# Altium footprint library SRlatch.PCBLIB: 3 footprints
Each footprint in its own frame and in the unit in brackets; x right, y up, seen from the top. Pads: shape width x height; smd on the part's side, far side on the other; paste and mask are expansions set on the pad; w line width, h text height; cw(c..) or ccw(c..) is an arc to the next point about the centre after c.
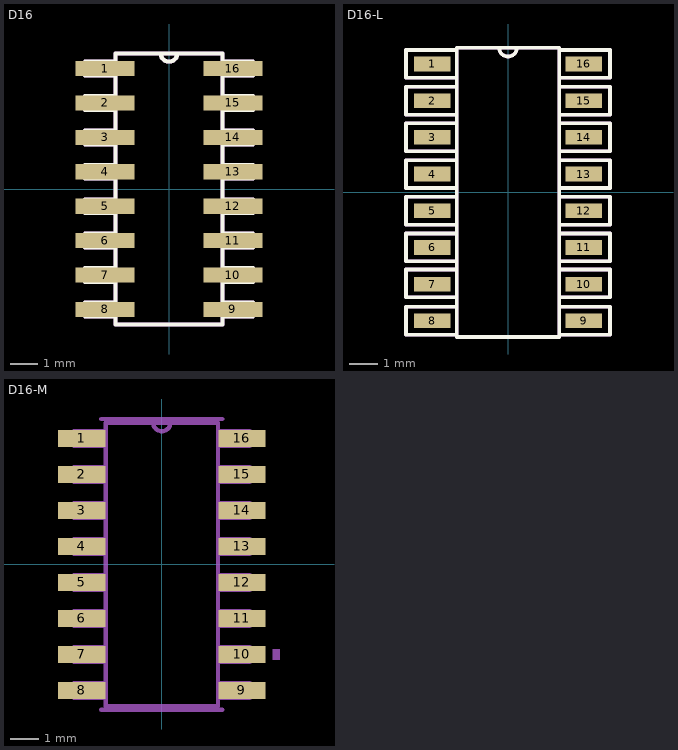
[diagram p0: the footprints below, top view; thin cyan lines are the x and y axes]

## D16 [mil]
pads (16):
  rect 86x22 smd: 1(-93,175) 2(-93,125) 3(-93,75) 4(-93,25) 5(-93,-25) 6(-93,-75) 7(-93,-125) 8(-93,-175) 9(93,-175) 10(93,-125) 11(93,-75) 12(93,-25) 13(93,25) 14(93,75) 15(93,125) 16(93,175)
Top Overlay:
  lines w6: -12,197 ccw(c0,197) 12,197 ; -12,197 12,197 ; -12,197 -78,197 -78,-197 78,-197 78,197 12,197 ; -122,-185 -122,-165 -78,-165 -78,-185 -122,-185 ; -122,-135 -122,-115 -78,-115 -78,-135 -122,-135 ; -122,-85 -122,-65 -78,-65 -78,-85 -122,-85 ; -122,-35 -122,-15 -78,-15 -78,-35 -122,-35 ; -122,15 -122,35 -78,35 -78,15 -122,15 ; -122,65 -122,85 -78,85 -78,65 -122,65 ; -122,115 -122,135 -78,135 -78,115 -122,115 ; -122,165 -122,185 -78,185 -78,165 -122,165 ; 78,-185 78,-165 122,-165 122,-185 78,-185 ; 78,-135 78,-115 122,-115 122,-135 78,-135 ; 78,-85 78,-65 122,-65 122,-85 78,-85 ; 78,-35 78,-15 122,-15 122,-35 78,-35 ; 78,15 78,35 122,35 122,15 78,15 ; 78,65 78,85 122,85 122,65 78,65 ; 78,115 78,135 122,135 122,115 78,115 ; 78,165 78,185 122,185 122,165 78,165
Dimension:
  lines w6: -12,197 ccw(c0,197) 12,197 ; -12,197 12,197 ; -12,197 -78,197 -78,-197 78,-197 78,197 12,197 ; -122,-185 -122,-165 -78,-165 -78,-185 -122,-185 ; -122,-135 -122,-115 -78,-115 -78,-135 -122,-135 ; -122,-85 -122,-65 -78,-65 -78,-85 -122,-85 ; -122,-35 -122,-15 -78,-15 -78,-35 -122,-35 ; -122,15 -122,35 -78,35 -78,15 -122,15 ; -122,65 -122,85 -78,85 -78,65 -122,65 ; -122,115 -122,135 -78,135 -78,115 -122,115 ; -122,165 -122,185 -78,185 -78,165 -122,165 ; 78,-185 78,-165 122,-165 122,-185 78,-185 ; 78,-135 78,-115 122,-115 122,-135 78,-135 ; 78,-85 78,-65 122,-65 122,-85 78,-85 ; 78,-35 78,-15 122,-15 122,-35 78,-35 ; 78,15 78,35 122,35 122,15 78,15 ; 78,65 78,85 122,85 122,65 78,65 ; 78,115 78,135 122,135 122,115 78,115 ; 78,165 78,185 122,185 122,165 78,165
Assembly Top:
  lines w6: -12,197 ccw(c0,197) 12,197 ; -12,197 -78,197 -78,-197 78,-197 78,197 12,197 ; -12,197 12,197 ; -122,-185 -78,-185 -78,-165 -122,-165 -122,-185 ; -122,-135 -78,-135 -78,-115 -122,-115 -122,-135 ; -122,-85 -78,-85 -78,-65 -122,-65 -122,-85 ; -122,-35 -78,-35 -78,-15 -122,-15 -122,-35 ; -122,15 -78,15 -78,35 -122,35 -122,15 ; -122,65 -78,65 -78,85 -122,85 -122,65 ; -122,115 -78,115 -78,135 -122,135 -122,115 ; -122,165 -78,165 -78,185 -122,185 -122,165 ; 78,-185 122,-185 122,-165 78,-165 78,-185 ; 78,-135 122,-135 122,-115 78,-115 78,-135 ; 78,-85 122,-85 122,-65 78,-65 78,-85 ; 78,-35 122,-35 122,-15 78,-15 78,-35 ; 78,15 122,15 122,35 78,35 78,15 ; 78,65 122,65 122,85 78,85 78,65 ; 78,115 122,115 122,135 78,135 78,115 ; 78,165 122,165 122,185 78,185 78,165
3D body "User Library-16lead IC SOIC.step": height 55.12, standoff 0, extent -116.53,-194.77 119.68,195

## D16-L [mil]
pads (16):
  rect 49.5x20 smd: 1(-103.25,175) 2(-103.25,125) 3(-103.25,75) 4(-103.25,25) 5(-103.25,-25) 6(-103.25,-75) 7(-103.25,-125) 8(-103.25,-175) 9(103.25,-175) 10(103.25,-125) 11(103.25,-75) 12(103.25,-25) 13(103.25,25) 14(103.25,75) 15(103.25,125) 16(103.25,175)
Top Overlay:
  lines w5: -72,-194 -139,-194 -139,-156 -72,-156 ; -72,-143 -139,-143 -139,-105 -72,-105 ; -72,-94 -139,-94 -139,-56 -72,-56 ; -72,-44 -139,-44 -139,-6 -72,-6 ; -72,6 -139,6 -139,44 -72,44 ; -72,56 -139,56 -139,94 -72,94 ; -72,106 -139,106 -139,144 -72,144 ; -72,156 -139,156 -139,194 -72,194 ; 72,-194 139,-194 139,-156 72,-156 ; 72,-143 139,-143 139,-105 72,-105 ; 72,-94 139,-94 139,-56 72,-56 ; 72,-44 139,-44 139,-6 72,-6 ; 72,6 139,6 139,44 72,44 ; 72,56 139,56 139,94 72,94 ; 72,106 139,106 139,144 72,144 ; 72,156 139,156 139,194 72,194 ; -12,197 ccw(c0,197) 12,197 ; -12,197 12,197 ; -12,197 -70,197 -70,-197 70,-197 70,197 12,197
Dimension:
  lines w5: -72,-194 -139,-194 -139,-156 -72,-156 ; -72,-143 -139,-143 -139,-105 -72,-105 ; -72,-94 -139,-94 -139,-56 -72,-56 ; -72,-44 -139,-44 -139,-6 -72,-6 ; -72,6 -139,6 -139,44 -72,44 ; -72,56 -139,56 -139,94 -72,94 ; -72,106 -139,106 -139,144 -72,144 ; -72,156 -139,156 -139,194 -72,194 ; 72,-194 139,-194 139,-156 72,-156 ; 72,-143 139,-143 139,-105 72,-105 ; 72,-94 139,-94 139,-56 72,-56 ; 72,-44 139,-44 139,-6 72,-6 ; 72,6 139,6 139,44 72,44 ; 72,56 139,56 139,94 72,94 ; 72,106 139,106 139,144 72,144 ; 72,156 139,156 139,194 72,194 ; -12,197 ccw(c0,197) 12,197 ; -12,197 -70,197 -70,-197 70,-197 70,197 12,197 ; -12,197 12,197
  text "'.Designator'" at -20,140 h27.56
3D body "User Library-16lead IC SOIC.step": height 55.12, standoff 0, extent -116.53,-194.77 119.68,195

## D16-M [mil]
pads (16):
  rect 65.5x24 smd: 1(-111.25,175) 2(-111.25,125) 3(-111.25,75) 4(-111.25,25) 5(-111.25,-25) 6(-111.25,-75) 7(-111.25,-125) 8(-111.25,-175) 9(111.25,-175) 10(111.25,-125) 11(111.25,-75) 12(111.25,-25) 13(111.25,25) 14(111.25,75) 15(111.25,125) 16(111.25,175)
Assembly Top:
  lines w6: -12,197 ccw(c0,197) 12,197 ; -12,197 12,197 ; -12,197 -78,197 -78,-197 78,-197 78,197 12,197 ; -122,-185 -122,-165 -78,-165 -78,-185 -122,-185 ; -122,-135 -122,-115 -78,-115 -78,-135 -122,-135 ; -122,-85 -122,-65 -78,-65 -78,-85 -122,-85 ; -122,-35 -122,-15 -78,-15 -78,-35 -122,-35 ; -122,15 -122,35 -78,35 -78,15 -122,15 ; -122,65 -122,85 -78,85 -78,65 -122,65 ; -122,115 -122,135 -79,135 -78,115 -122,115 ; -122,165 -122,185 -79,185 -78,165 -122,165 ; 78,-165 79,-185 122,-185 122,-165 78,-165 ; 78,-135 78,-115 122,-115 122,-135 78,-135 ; 78,-85 78,-65 122,-65 122,-85 78,-85 ; 78,-35 78,-15 122,-15 122,-35 78,-35 ; 78,15 78,35 122,35 122,15 78,15 ; 78,65 78,85 122,85 122,65 78,65 ; 78,115 78,135 122,135 122,115 78,115 ; 78,165 78,185 122,185 122,165 78,165
Top Assembly:
  region: 164,-117.5 164,-132.5 154,-132.5 154,-117.5
  lines w6: -84,-202 84,-202 ; -84,202 84,202